# Altium schematic symbol library Components.SchLib: 1 symbol
Pins are listed as number, name and electrical type; pins without a type are passive.

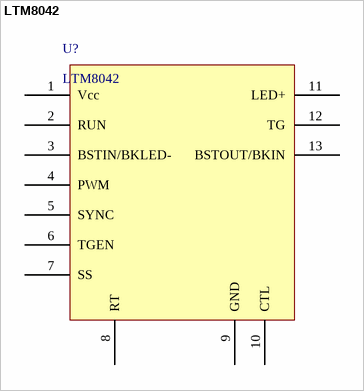
[diagram p0: symbol LTM8042]

## LTM8042
designator U?
Manufacturer: Linear Technology; PartNumber: LTM8042EV#PBF
footprint LGA77C127P7X11_900X1500X282 (LGA, 77-Leads, Body 9.00x15.00mmx2.82mm, Pitch 1.27mm); pin to pad 1>A6+A7+B6+B7 2>F1 3>C5+C6+C7+D5+D6+D7 4>K1 5>G1 6>L3 7>J1 8>H1 9>A1+A2+A3+A4+A5+B1+B2+B3+B4+B5+C1+C2+C3+C4+D1+D2+D3+D4+E1+E2+E3+E4+E5+E6+E7+F2+F3+F4+F5+F6+F7+G2+G3+G4+H2+H3+H4+J2+J3+J4+K2+K3+K4+L1+L4 10>L2 11>K5+K6+K7+L5+L6+L7 12>J7 13>G5+G6+G7+H5+H6+H7+J5+J6
pins: 1 Vcc, 2 RUN, 3 BSTIN/BKLED-, 4 PWM, 5 SYNC, 6 TGEN, 7 SS, 8 RT, 9 GND, 10 CTL, 11 LED+, 12 TG, 13 BSTOUT/BKIN